# Altium schematic symbol library MOD-HOLYIOT-17024.SchLib: 1 symbol
Pins are listed as number, name and electrical type; pins without a type are passive.

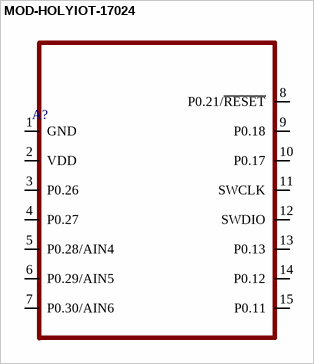
[diagram p0: symbol MOD-HOLYIOT-17024]

## MOD-HOLYIOT-17024
designator A?
pins: 1 GND, 2 VDD, 3 P0.26, 4 P0.27, 5 P0.28/AIN4, 6 P0.29/AIN5, 7 P0.30/AIN6, 8 P0.21/~{RESET}, 9 P0.18, 10 P0.17, 11 SWCLK, 12 SWDIO, 13 P0.13, 14 P0.12, 15 P0.11